# Altium footprint library PHOENIX 1985195.PcbLib: 1 footprints
Each footprint in its own frame and in the unit in brackets; x right, y up, seen from the top. Pads: shape width x height; smd on the part's side, far side on the other; paste and mask are expansions set on the pad; w line width, h text height; cw(c..) or ccw(c..) is an arc to the next point about the centre after c.
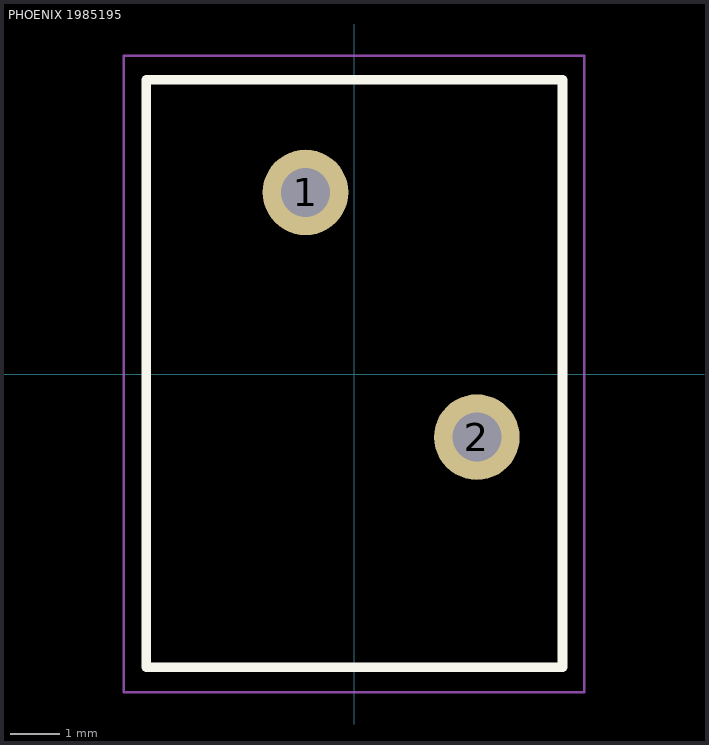
[diagram p0: the footprint, top view; thin cyan lines are the x and y axes]

## PHOENIX 1985195 [mm]
height 6
pads (2):
  round 1.75 hole 1: 1(-0.99,3.71) 2(2.51,-1.29)
Top Overlay:
  lines w0.2: -4.243,-5.99 4.257,-5.99 4.257,6.01 -4.243,6.01 -4.243,-5.99
Top Assembly:
  lines w0.1: -4.243,-5.99 4.257,-5.99 4.257,6.01 -4.243,6.01 -4.243,-5.99
Top Courtyard:
  lines w0.05: -4.7,-6.5 -4.7,6.5 4.7,6.5 4.7,-6.5 -4.7,-6.5
Top Designator:
  text ".Designator" at -7.498,-0.5 h1.5
3D body "1985195.stp": height 13.1, standoff -3.5, extent -4.272,-5.99 4.228,6.01